# EAGLE library part IV-27 (library iv-27)
13-digit 7-segment display tube 5V heater, 24V grids and anodes
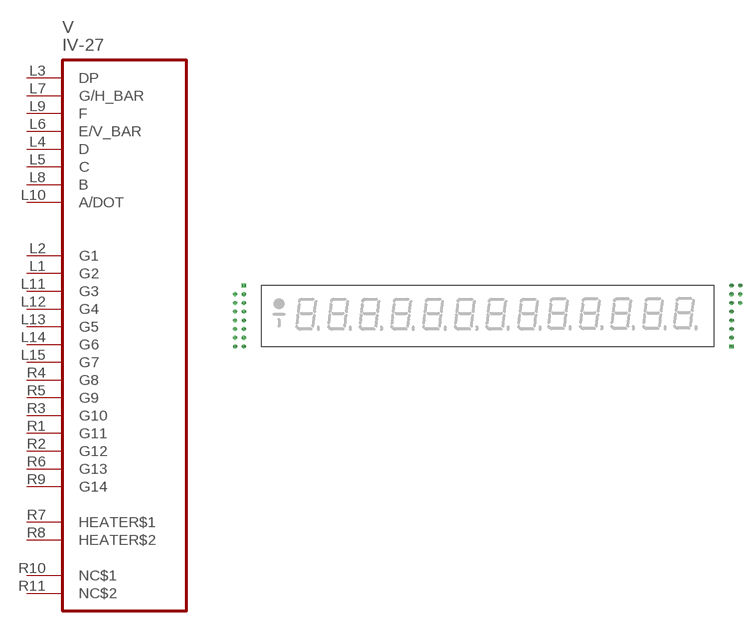
[diagram p0: symbol with the pads of IV-27; footprint IV-27]

Designator prefix V

## IV-27  [IV-27]
L1  G2  pas
L2  G1  pas
L3  DP  pas
L4  D  pas
L5  C  pas
L6  E/V_BAR  pas
L7  G/H_BAR  pas
L8  B  pas
L9  F  pas
L10  A/DOT  pas
L11  G3  pas
L12  G4  pas
L13  G5  pas
L14  G6  pas
L15  G7  pas
R1  G11  pas
R2  G12  pas
R3  G10  pas
R4  G8  pas
R5  G9  pas
R6  G13  pas
R7  HEATER$1  pas
R8  HEATER$2  pas
R9  G14  pas
R10  NC$1  pas
R11  NC$2  pas

## Footprint IV-27 (pad centres in mm)
drill 0.7 square: L1 0,0; R1 142.24,-17.78
drill 0.7: L2 0,-2.54; L3 0,-5.08; L4 0,-7.62; L5 0,-10.16; L6 0,-12.7; L7 0,-15.24; L8 0,-17.78; L9 -2.54,-17.78; L10 -2.54,-15.24; L11 -2.54,-12.7; L12 -2.54,-10.16; L13 -2.54,-7.62; L14 -2.54,-5.08; L15 -2.54,-2.54; R2 142.24,-15.24; R3 142.24,-12.7; R4 142.24,-10.16; R5 142.24,-7.62; R6 142.24,-5.08; R7 142.24,-2.54; R8 142.24,0; R9 144.78,0; R10 144.78,-2.54; R11 144.78,-5.08